# Altium footprint library D_Passives.PcbLib: 12 footprints
Each footprint in its own frame and in the unit in brackets; x right, y up, seen from the top. Pads: shape width x height; smd on the part's side, far side on the other; paste and mask are expansions set on the pad; w line width, h text height; cw(c..) or ccw(c..) is an arc to the next point about the centre after c.
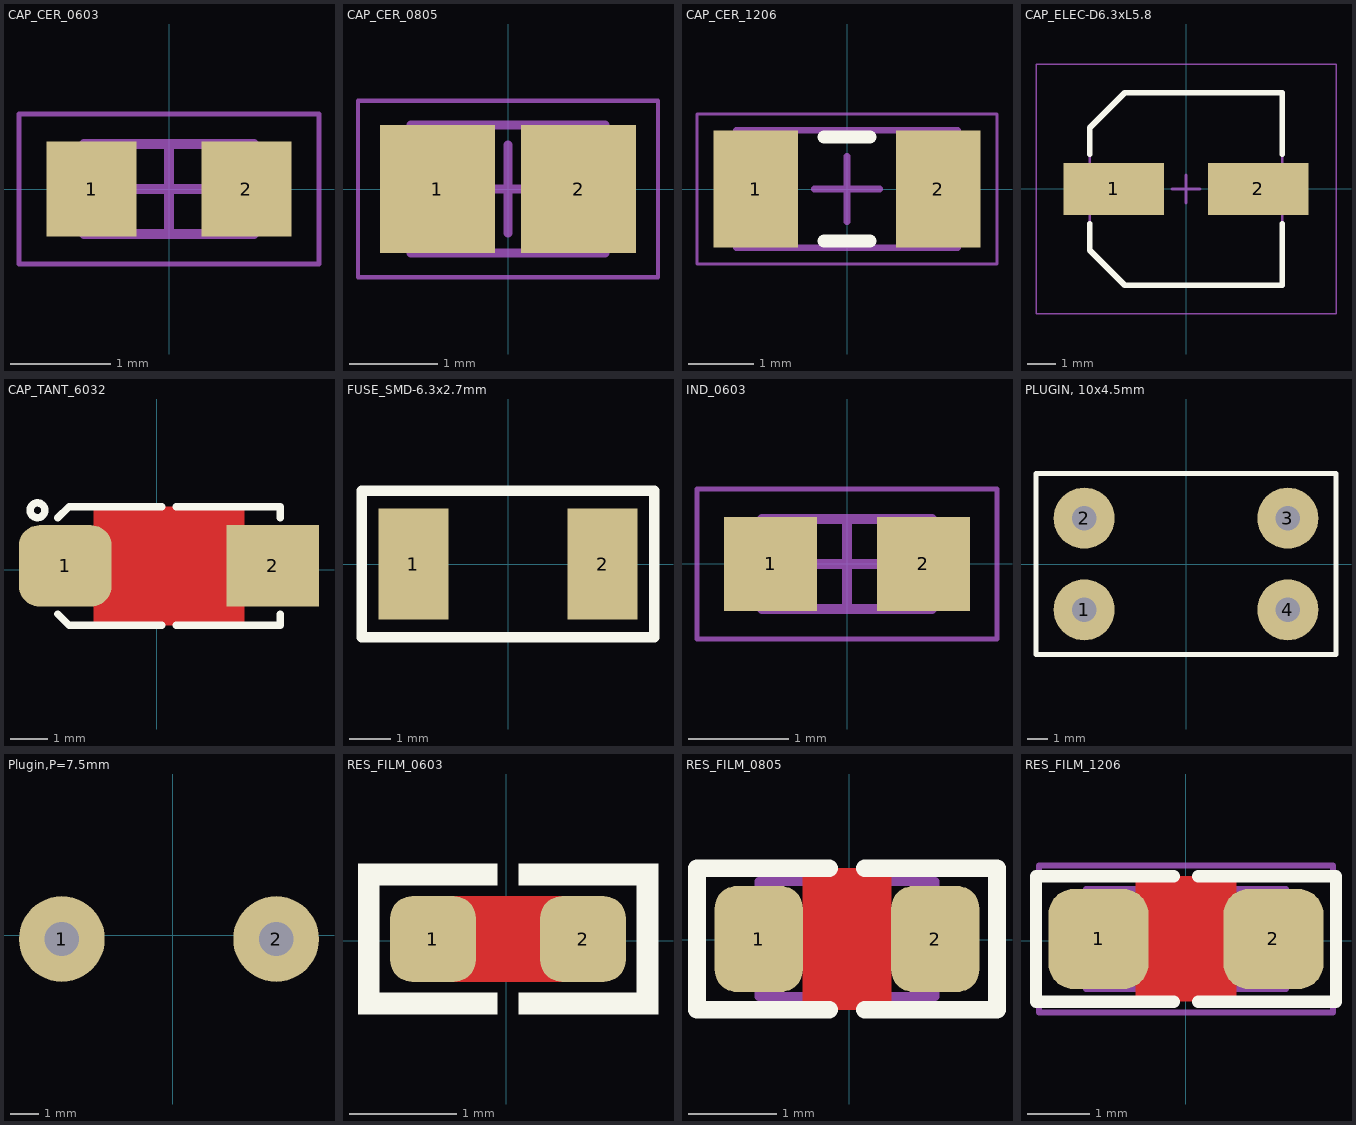
[diagram p0: the footprints below, top view; thin cyan lines are the x and y axes]

## CAP_CER_0603 [mm] "Capacitor Cerámico 0603"
height 0.9
pads (2):
  rect 0.9x0.95 smd: 1(-0.775,0) 2(0.775,0)
Mechanical 13:
  lines w0.1: -0.85,-0.45 0.85,-0.45 0.85,0.45 -0.85,0.45 -0.85,-0.45
Mechanical 15:
  lines w0.05: -1.5,-0.75 1.5,-0.75 1.5,0.75 -1.5,0.75 -1.5,-0.75
  lines w0.1: -0.45,0 0.45,0 ; 0,-0.45 0,0.45
3D body "CAP_CER_0603.step": height 0.9, standoff 0, extent -0.85,-0.45 0.85,0.45

## CAP_CER_0805 [mm]
height 1
pads (2):
  rect 1.3x1.45 smd: 1(-0.8,0) 2(0.8,0)
Mechanical 13:
  lines w0.1: -1.1,-0.725 1.1,-0.725 1.1,0.725 -1.1,0.725 -1.1,-0.725
Mechanical 15:
  lines w0.05: -1.7,-1 1.7,-1 1.7,1 -1.7,1 -1.7,-1
  lines w0.1: -0.5,0 0.5,0 ; 0,-0.5 0,0.5
3D body "CAP_CER_0805.step": height 1, standoff 0, extent -1.1,-0.725 1.1,0.725

## CAP_CER_1206 [mm]
height 1
pads (2):
  rect 1.3x1.8 smd: 1(-1.4,0) 2(1.4,0)
Top Overlay:
  lines w0.2: -0.35,-0.8 0.35,-0.8 ; -0.35,0.8 0.35,0.8
Mechanical 13:
  lines w0.1: -1.7,-0.9 -1.7,0.9 1.7,0.9 1.7,-0.9 -1.7,-0.9
Mechanical 15:
  lines w0.05: -2.3,-1.15 -2.3,1.15 2.3,1.15 2.3,-1.15 -2.3,-1.15
  lines w0.1: -0.5,0 0.5,0 ; 0,-0.5 0,0.5
3D body "CAP_CER_1206.step": height 1, standoff 0, extent -1.7,-0.9 1.7,0.9

## CAP_ELEC-D6.3xL5.8 [mm]
pads (2):
  rect 3.55x1.85 smd: 1(-2.55,0) 2(2.55,0)
Top Overlay:
  lines w0.2: -3.4,-1.225 -3.4,-2.163 -2.163,-3.4 3.4,-3.4 3.4,-1.225 ; -3.4,1.225 -3.4,2.163 -2.163,3.4 3.4,3.4 3.4,1.225
Mechanical 13:
  lines w0.1: -3.4,-2.163 -3.4,2.163 -2.163,3.4 3.4,3.4 3.4,-3.4 -2.163,-3.4 -3.4,-2.163
Mechanical 15:
  lines w0.05: -5.3,-4.4 5.3,-4.4 5.3,4.4 -5.3,4.4 -5.3,-4.4
  lines w0.1: -0.5,0 0.5,0 ; 0,-0.5 0,0.5
3D body "EEEFT1V101AP.step": height 6.1, standoff -0.15, extent -3.5,-3.4 3.5,3.4

## CAP_TANT_6032 [mm]
pads (2):
  rrect50% 2.5x2.2 smd: 1(-2.47,0.104)
  rect 2.5x2.2 smd: 2(3.13,0.104)
Top Layer:
  pour cut-out: -1.702,1.704 2.362,1.704 2.362,-1.496 -1.702,-1.496
Top Overlay:
  circle w0.2: c-3.22,1.604 r0.2
  lines w0.2: -2.67,-1.196 -2.37,-1.496 0.13,-1.496 ; -2.67,1.404 -2.37,1.704 0.13,1.704 ; 0.53,-1.496 3.33,-1.496 3.33,-1.196 ; 0.53,1.704 3.33,1.704 3.33,1.404
3D body "User Library-CAP_TANT_6032-28_y.step": height 2.8, standoff 0, extent -2.819,-1.646 3.481,1.854

## FUSE_SMD-6.3x2.7mm [mm]
pads (2):
  rect 1.7x2.7 smd: 1(-2.3,0) 2(2.3,0)
Top Overlay:
  lines w0.254: -3.556,-1.778 3.556,-1.778 3.556,1.778 -3.556,1.778 -3.556,-1.778

## IND_0603 [mm] "0603"
pads (2):
  rect 0.93x0.94 smd: 1(-0.765,0) 2(0.765,0)
Mechanical 13:
  lines w0.1: -0.85,-0.45 -0.85,0.45 0.85,0.45 0.85,-0.45 -0.85,-0.45
Mechanical 15:
  lines w0.05: -1.5,-0.75 -1.5,0.75 1.5,0.75 1.5,-0.75 -1.5,-0.75
  lines w0.1: -0.45,0 0.45,0 ; 0,-0.45 0,0.45
3D body "INDC1608X08N.step": height 0.8, standoff 0, extent -0.85,-0.45 0.85,0.45

## PLUGIN, 10x4.5mm [mm]
pads (4):
  round 3 hole 1.2: 1(-5,-2.25) 2(-5,2.25) 3(5,2.25) 4(5,-2.25)
Top Overlay:
  lines w0.254: -7.366,-4.445 -7.366,4.445 7.366,4.445 7.366,-4.445 -7.366,-4.445

## Plugin,P=7.5mm [mm] "THT de 7.5 mm de separación con 1.2 mm de hueco"
pads (2):
  round 3 hole 1.2: 1(-3.877,-0.127) 2(3.623,-0.127)

## RES_FILM_0603 [mm]
pads (2):
  rrect50% 0.8x0.8 smd mask+0.075: 1(-0.684,0.018) 2(0.716,0.018)
Top Layer:
  pour cut-out: -0.484,0.418 0.516,0.418 0.516,-0.382 -0.484,-0.382
Top Overlay:
  region: 0.116,-0.482 0.116,-0.682 1.416,-0.682 1.416,-0.482
  region: 0.116,0.518 0.116,0.718 1.416,0.718 1.416,0.518
  region: 1.416,0.718 1.216,0.718 1.216,-0.682 1.416,-0.682
  region: -1.384,0.718 -1.184,0.718 -1.184,-0.682 -1.384,-0.682
  region: -0.084,0.518 -0.084,0.718 -1.384,0.718 -1.384,0.518
  region: -0.084,-0.482 -0.084,-0.682 -1.384,-0.682 -1.384,-0.482
3D body "User Library-RES_1609-0603.step": height 0.56, standoff 0, extent -0.834,-0.382 0.866,0.418

## RES_FILM_0805 [mm]
pads (2):
  rrect50% 1x1.2 smd mask+0.05: 1(-1.026,0.006) 2(0.974,0.006)
Top Layer:
  pour cut-out: -0.526,0.806 0.474,0.806 0.474,-0.794 -0.526,-0.794
Top Overlay:
  lines w0.2: -0.226,-0.794 -1.726,-0.794 -1.726,0.806 -0.226,0.806 ; 0.174,-0.794 1.674,-0.794 1.674,0.806 0.174,0.806
Mechanical 13:
  lines w0.1: -1.026,-0.644 0.974,-0.644 0.974,0.656 -1.026,0.656 -1.026,-0.644
3D body "User Library-RES_2013-0805.step": height 0.76, standoff 0, extent -1.176,-0.669 1.124,0.681

## RES_FILM_1206 [mm]
pads (2):
  rrect50% 1.6x1.6 smd mask+0.075: 1(-1.396,0.025) 2(1.404,0.025)
Top Layer:
  pour cut-out: -0.796,1.025 -0.796,-0.975 0.804,-0.975 0.804,1.025
Top Overlay:
  lines w0.2: -0.196,-0.976 -2.396,-0.976 -2.396,1.025 -0.196,1.025 ; 0.204,-0.976 2.404,-0.976 2.404,1.025 0.204,1.025
Mechanical 13:
  lines w0.1: -1.596,-0.775 -1.596,0.825 1.604,0.825 1.604,-0.775 -1.596,-0.775
Mechanical 15:
  lines w0.1: -0.496,0.025 0.504,0.025 ; 0.004,-0.475 0.004,0.525 ; -2.346,-1.15 -2.346,1.2 2.354,1.2 2.354,-1.15 -2.346,-1.15
3D body "User Library-RES_3216-1206.step": height 0.85, standoff 0, extent -1.671,-0.84 1.679,0.89